# EAGLE library part MEGA8L-DEV (library atmega8l)
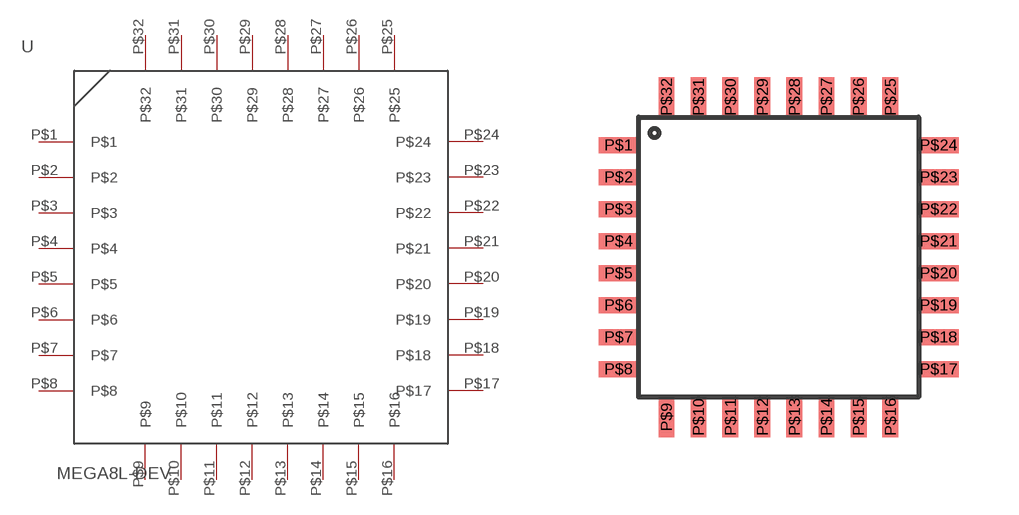
[diagram p0: symbol with the pads of TQFP-MEGA8L; footprint TQFP-MEGA8L]

Designator prefix -

## MEGA8L-DEV  [TQFP-MEGA8L]
P$1  P$1
P$2  P$2
P$3  P$3
P$4  P$4
P$5  P$5
P$6  P$6
P$7  P$7
P$8  P$8
P$9  P$9
P$10  P$10
P$11  P$11
P$12  P$12
P$13  P$13
P$14  P$14
P$15  P$15
P$16  P$16
P$17  P$17
P$18  P$18
P$19  P$19
P$20  P$20
P$21  P$21
P$22  P$22
P$23  P$23
P$24  P$24
P$25  P$25
P$26  P$26
P$27  P$27
P$28  P$28
P$29  P$29
P$30  P$30
P$31  P$31
P$32  P$32

## Footprint TQFP-MEGA8L (pad centres in mm)
smd 1 x 0.4: P$1 18.6,2.5; P$2 18.6,1.7; P$3 18.6,0.9; P$4 18.6,0.1; P$5 18.6,-0.7; P$6 18.6,-1.5; P$7 18.6,-2.3; P$8 18.6,-3.1; P$17 26.6,-3.1; P$18 26.6,-2.3; P$19 26.6,-1.5; P$20 26.6,-0.7; P$21 26.6,0.1; P$22 26.6,0.9; P$23 26.6,1.7; P$24 26.6,2.5
smd 0.4 x 1: P$9 19.8,-4.3; P$10 20.6,-4.3; P$11 21.4,-4.3; P$12 22.2,-4.3; P$13 23,-4.3; P$14 23.8,-4.3; P$15 24.6,-4.3; P$16 25.4,-4.3; P$25 25.4,3.7; P$26 24.6,3.7; P$27 23.8,3.7; P$28 23,3.7; P$29 22.2,3.7; P$30 21.4,3.7; P$31 20.6,3.7; P$32 19.8,3.7